# Altium schematic symbol library ASMB-MTB1-0B3A2.SchLib: 1 symbol
Pins are listed as number, name and electrical type; pins without a type are passive.

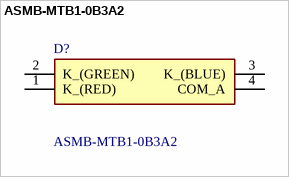
[diagram p0: symbol ASMB-MTB1-0B3A2]

## ASMB-MTB1-0B3A2
designator D?
Standard LEDs - SMD PLCC4,T/Mt,BS/WF Silicone RGB; Manufacturer_Name: Avago Technologies; Geometry.Height: 2.1mm; TME Electronic Components Part Number: *; TME Electronic Components Price/Stock: *; Manufacturer_Part_Number: ASMB-MTB1-0B3A2; Datasheet Link: https://docs.broadcom.com/doc/AV02-4194EN
footprint ASMBMTB10B3A2
pins: 1 K_(RED), 2 K_(GREEN), 3 K_(BLUE), 4 COM_A